# EAGLE library part STP04CM05 (library diskohedron)
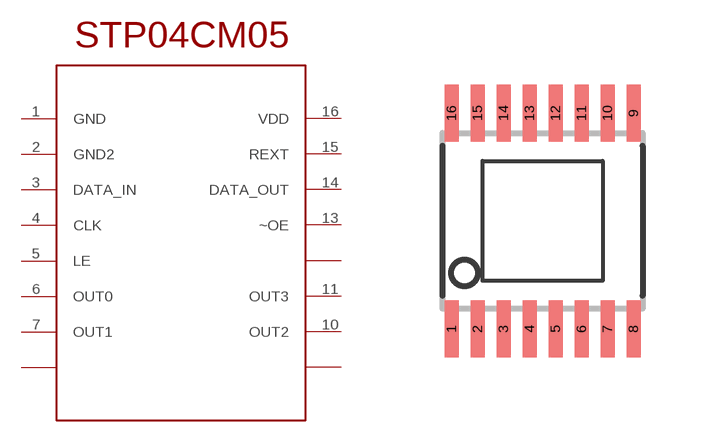
[diagram p0: symbol with the pads of TSSOP16; footprint TSSOP16]

Designator prefix -

## STP04CM05  [TSSOP16]
1  GND
2  GND2
3  DATA_IN
4  CLK
5  LE
6  OUT0
7  OUT1
8  N.C1
9  NC
10  OUT2
11  OUT3
12  NC3
13  ~OE
14  DATA_OUT
15  REXT
16  VDD

## Footprint TSSOP16 (pad centres in mm)
smd 0.35 x 1.43: 1 -2.275,-2.7; 2 -1.625,-2.7; 3 -0.975,-2.7; 4 -0.325,-2.7; 5 0.325,-2.7; 6 0.975,-2.7; 7 1.625,-2.7; 8 2.275,-2.7; 9 2.275,2.7; 10 1.625,2.7; 11 0.975,2.7; 12 0.325,2.7; 13 -0.325,2.7; 14 -0.975,2.7; 15 -1.625,2.7; 16 -2.275,2.7